# EAGLE library part MAX9919 (library nonolith)
MAX9919 single-channel current sense amp with high common mode voltage range and high bandwidth
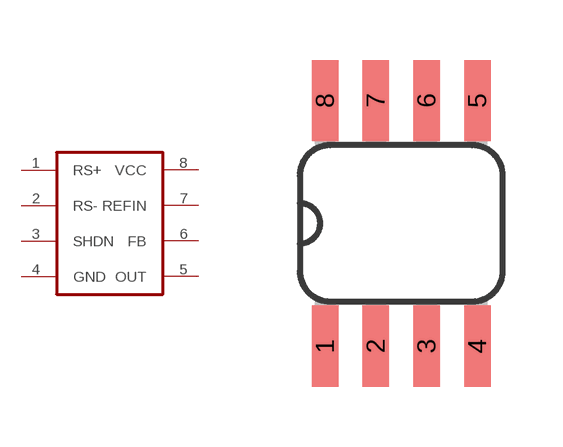
[diagram p15: symbol with the pads of SO-08; footprint SO-08]

Designator prefix -

## MAX9919  [SO-08]
1  RS+
2  RS-
3  SHDN
4  GND
5  OUT
6  FB
7  REFIN
8  VCC

## Footprint SO-08 (pad centres in mm)
smd 0.66 x 2.032: 1 -1.905,-3.073; 2 -0.635,-3.073; 3 0.635,-3.073; 4 1.905,-3.073; 5 1.905,3.073; 6 0.635,3.073; 7 -0.635,3.073; 8 -1.905,3.073